# EAGLE library part CHESTER-X-NO-SPRING (library hardwario)
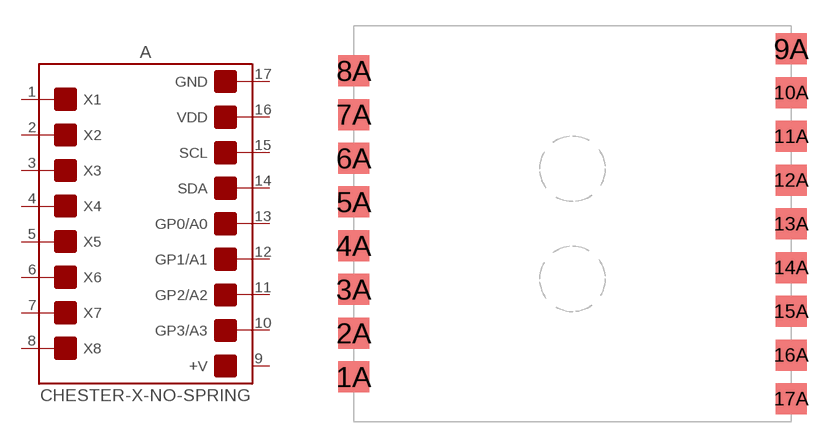
[diagram p5: symbol with the pads of CHESTER-X-NO-SPRING; footprint CHESTER-X-NO-SPRING]

Designator prefix A

## CHESTER-X-NO-SPRING"" (BCPN: BC-CHESTER-X-NO-SPRING; VALUE: CHESTER-X-NO-SPRING)  [CHESTER-X-NO-SPRING]
1A  1  pas
2A  2  pas
3A  3  pas
4A  4  pas
5A  5  pas
6A  6  pas
7A  7  pas
8A  8  pas
9A  9  pas
10A  10  pas
11A  11  pas
12A  12  pas
13A  13  pas
14A  14  pas
15A  15  pas
16A  16  pas
17A  17  pas

## Footprint CHESTER-X-NO-SPRING (pad centres in mm)
smd 1.8 x 1.8: 1A -12.7,-8.89; 2A -12.7,-6.35; 3A -12.7,-3.81; 4A -12.7,-1.27; 5A -12.7,1.27; 6A -12.7,3.81; 7A -12.7,6.35; 8A -12.7,8.89; 9A 12.7,10.16; 10A 12.7,7.62; 11A 12.7,5.08; 12A 12.7,2.54; 13A 12.7,0; 14A 12.7,-2.54; 15A 12.7,-5.08; 16A 12.7,-7.62; 17A 12.7,-10.16